# Altium schematic symbol library USB-A003.Schlib: 1 symbol
Pins are listed as number, name and electrical type; pins without a type are passive.

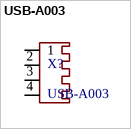
[diagram p0: symbol USB-A003]

## USB-A003
designator X?
OC_FARNELL: unknown; OC_NEWARK: unknown
footprint USB-A003
pins: 1, 2, 3, 4